# Altium footprint library CON1X14_2.54_FM.PcbLib: 1 footprints
Each footprint in its own frame and in the unit in brackets; x right, y up, seen from the top. Pads: shape width x height; smd on the part's side, far side on the other; paste and mask are expansions set on the pad; w line width, h text height; cw(c..) or ccw(c..) is an arc to the next point about the centre after c.
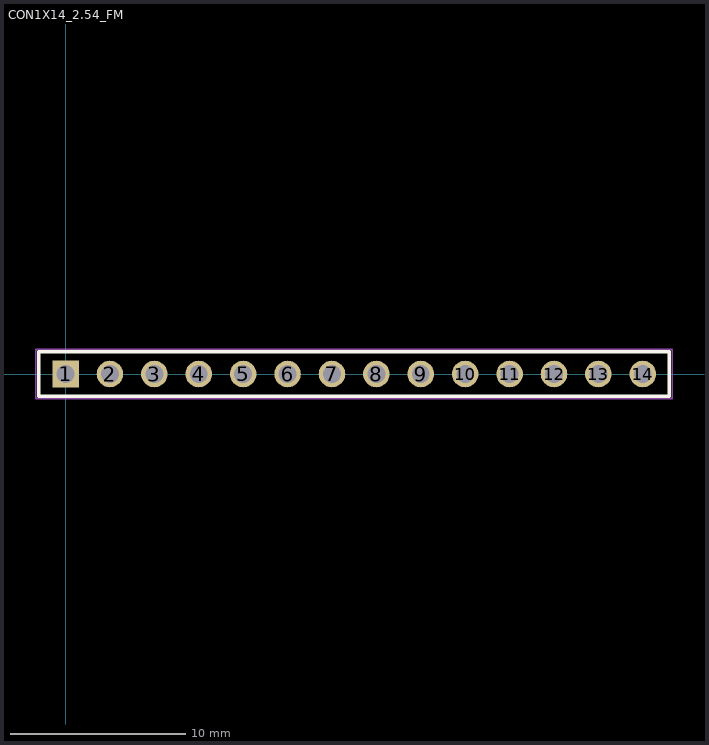
[diagram p0: the footprint, top view; thin cyan lines are the x and y axes]

## CON1X14_2.54_FM [mm] "Pitch 2.54mm Straight, PTH, 1x14Position"
height 2.54
pads (14):
  rect 1.52x1.52 hole 1.02: 1(0,0)
  round 1.52 hole 1.02: 2(2.54,0) 3(5.08,0) 4(7.62,0) 5(10.16,0) 6(12.7,0) 7(15.24,0) 8(17.78,0) 9(20.32,0) 10(22.86,0) 11(25.4,0) 12(27.94,0) 13(30.48,0) 14(33.02,0)
Top Overlay:
  lines w0.2: -1.524,-1.27 -1.524,1.27 34.544,1.27 34.544,-1.27 -1.524,-1.27
Mechanical 13:
  lines w0.1: -1.52,-1.27 -1.52,1.27 34.544,1.27 34.544,-1.27 -1.52,-1.27
Mechanical 15:
  lines w0.1: -1.7,-1.4 -1.7,1.4 34.7,1.4 34.7,-1.4 -1.7,-1.4
3D body: height 8.5, standoff -3.1, extent -1.52,-1.25 34.54,1.25